# EAGLE library part MAX1818 (library maxim-8)
500mA Low-Dropout Linear Regulator
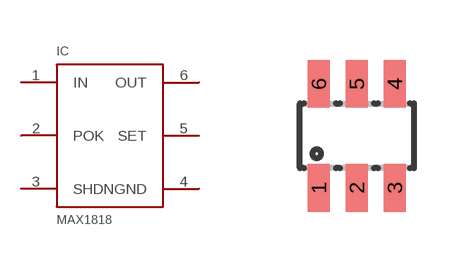
[diagram p391: symbol with the pads of SOT23-6L; footprint SOT23-6L]

Designator prefix IC

## MAX1818  [SOT23-6L]
1  IN  in
2  POK  oc
3  SHDN  in
4  GND  pwr
5  SET  in
6  OUT  out

## Footprint SOT23-6L (pad centres in mm)
Small Outline Transistor
smd 0.55 x 1.2: 1 -0.95,-1.3; 2 0,-1.3; 3 0.95,-1.3; 4 0.95,1.3; 5 0,1.3; 6 -0.95,1.3